# Altium integrated library 100SP1T2B4M7RE.IntLib: 1 symbol
Pins are listed as number, name and electrical type; pins without a type are passive.

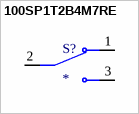
[diagram p0: symbol 100SP1T2B4M7RE]

## 100SP1T2B4M7RE
designator S?
Toggle Switch, 100 Series, SPDT, ON-NONE-ON,Sealed, 0.4A, 20VAC/DC, Gold,R/A PC | E-Switch 100SP1T2B4M7RE; SnapEDA_Link: https://www.snapeda.com/parts/100SP1T2B4M7RE/E-Switch/view-part/?ref=snap; Package: None; Value: *; MF: E-Switch; MP: 100SP1T2B4M7RE; Check_prices: https://www.snapeda.com/parts/100SP1T2B4M7RE/E-Switch/view-part/?ref=eda
footprint SW_100SP1T2B4M7RE
pins: 1, 2, 3